# Altium integrated library ISSI SRAM Asynchronous SRAM High Speed Low Power.IntLib: 413 symbols (part 20 of 21)
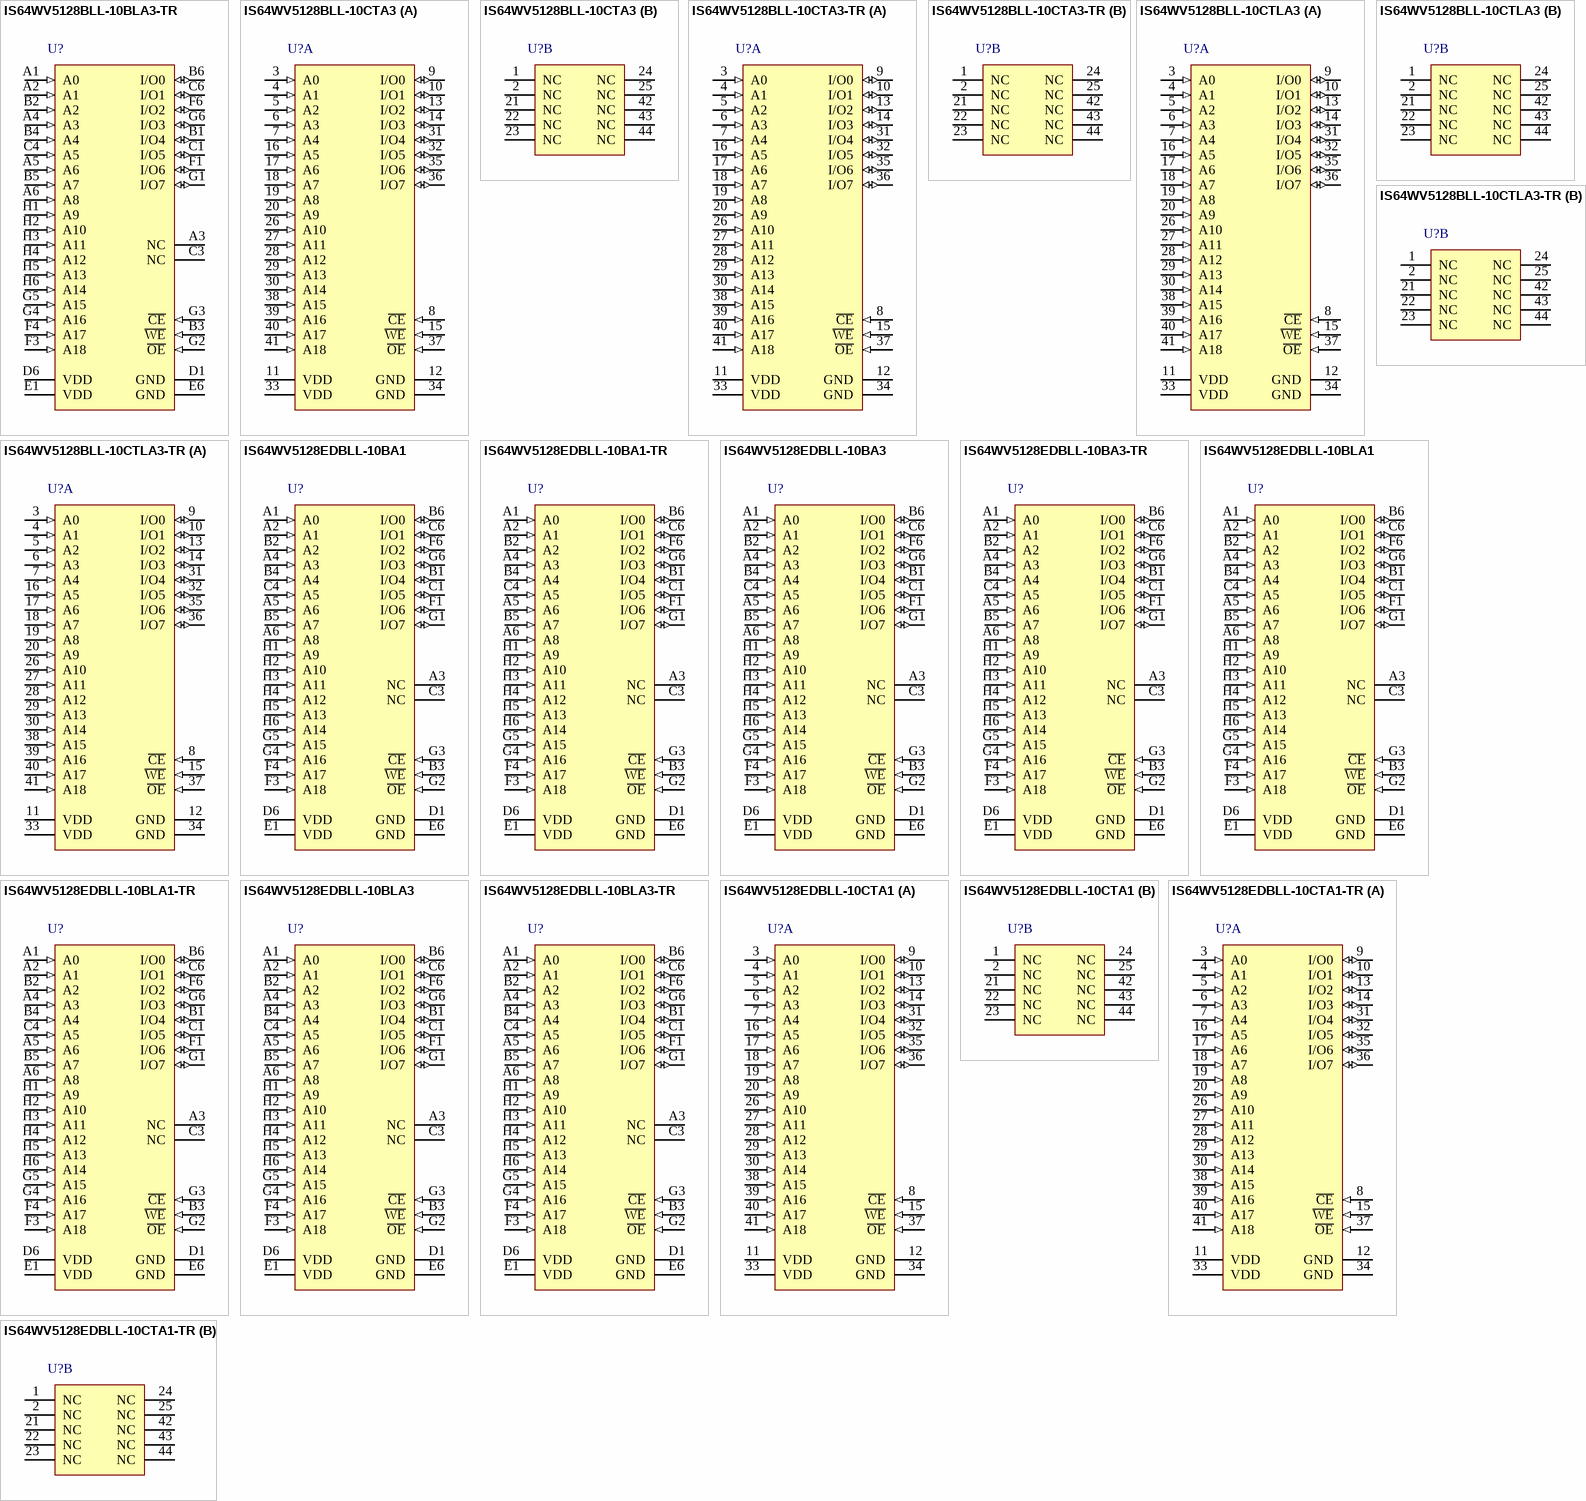
[diagram p47: symbols IS64WV5128BLL-10BLA3-TR to IS64WV5128EDBLL-10CTA1-TR]

## IS64WV5128EDBLL-10CTA1
designator U?
4 M High Speed Asynchronous CMOS SRAM with ECC, 512 K x 8, -40 to 85 degC, 44-Pin SOP (TSOP-2-44); Manufacturer: Integrated Silicon Solution Inc (ISSI); PartNumber: IS64WV5128EDBLL-10CTA1; Density: 4M; Organization: 512K x 8; Packing: Tray / Tube; Speed (ns): 10; DatasheetVersion: Rev. F; PackageVersion: Rev. F, 06/2008; PackageReference: TSOP-2-44; PackageDescription: 44-Pin 400 mil TSOP-2, Body 18.41 x 10.16 mm, Pitch 0.8 mm; Mounting Technology: Surface Mount; ComponentLink1Description: Manufacturer URL; ComponentLink1URL: http://www.issi.com/US/index.shtml; ComponentLink2Description: Datasheet; ComponentLink2URL: http://www.issi.com/WW/pdf/61-64WV5128EDBLL.pdf; ComponentLink3Description: Package Specification; ComponentLink3URL: http://www.issi.com/WW/pdf/61-64WV6416EEBLL.pdf
footprint ISSI-TSOP-2-44_N (SOP, 44-Leads, Body 18.5x10.3mm, Pitch 0.8mm, IPC Medium Density)
part A pins: 3 A0 (in) "Address Input", 4 A1 (in) "Address Input", 5 A2 (in) "Address Input", 6 A3 (in) "Address Input", 7 A4 (in) "Address Input", 8 ~{CE} (in) "Chip Enable Input", 9 I/O0 (io) "Bidirectional Port", 10 I/O1 (io) "Bidirectional Port", 11 VDD (power) "Power", 12 GND (power) "Ground", 13 I/O2 (io) "Bidirectional Port", 14 I/O3 (io) "Bidirectional Port", 15 ~{WE} (in) "Write Enable Input", 16 A5 (in) "Address Input", 17 A6 (in) "Address Input", 18 A7 (in) "Address Input", 19 A8 (in) "Address Input", 20 A9 (in) "Address Input", 26 A10 (in) "Address Input", 27 A11 (in) "Address Input", 28 A12 (in) "Address Input", 29 A13 (in) "Address Input", 30 A14 (in) "Address Input", 31 I/O4 (io) "Bidirectional Port", 32 I/O5 (io) "Bidirectional Port", 33 VDD (power) "Power", 34 GND (power) "Ground", 35 I/O6 (io) "Bidirectional Port", 36 I/O7 (io) "Bidirectional Port", 37 ~{OE} (in) "Output Enable Input", 38 A15 (in) "Address Input", 39 A16 (in) "Address Input", 40 A17 (in) "Address Input", 41 A18 (in) "Address Input"
part B pins: 1 NC "No Connection", 2 NC "No Connection", 21 NC "No Connection", 22 NC "No Connection", 23 NC "No Connection", 24 NC "No Connection", 25 NC "No Connection", 42 NC "No Connection", 43 NC "No Connection", 44 NC "No Connection"

## IS64WV5128EDBLL-10CTA1-TR
designator U?
4 M High Speed Asynchronous CMOS SRAM with ECC, 512 K x 8, -40 to 85 degC, 44-Pin SOP (TSOP-2-44); Manufacturer: Integrated Silicon Solution Inc (ISSI); PartNumber: IS64WV5128EDBLL-10CTA1-TR; Density: 4M; Organization: 512K x 8; Packing: Tape & Reel; Speed (ns): 10; DatasheetVersion: Rev. F; PackageVersion: Rev. F, 06/2008; PackageReference: TSOP-2-44; PackageDescription: 44-Pin 400 mil TSOP-2, Body 18.41 x 10.16 mm, Pitch 0.8 mm; Mounting Technology: Surface Mount; ComponentLink1Description: Manufacturer URL; ComponentLink1URL: http://www.issi.com/US/index.shtml; ComponentLink2Description: Datasheet; ComponentLink2URL: http://www.issi.com/WW/pdf/61-64WV5128EDBLL.pdf; ComponentLink3Description: Package Specification; ComponentLink3URL: http://www.issi.com/WW/pdf/61-64WV6416EEBLL.pdf
footprint ISSI-TSOP-2-44_N (SOP, 44-Leads, Body 18.5x10.3mm, Pitch 0.8mm, IPC Medium Density)
part A pins: 3 A0 (in) "Address Input", 4 A1 (in) "Address Input", 5 A2 (in) "Address Input", 6 A3 (in) "Address Input", 7 A4 (in) "Address Input", 8 ~{CE} (in) "Chip Enable Input", 9 I/O0 (io) "Bidirectional Port", 10 I/O1 (io) "Bidirectional Port", 11 VDD (power) "Power", 12 GND (power) "Ground", 13 I/O2 (io) "Bidirectional Port", 14 I/O3 (io) "Bidirectional Port", 15 ~{WE} (in) "Write Enable Input", 16 A5 (in) "Address Input", 17 A6 (in) "Address Input", 18 A7 (in) "Address Input", 19 A8 (in) "Address Input", 20 A9 (in) "Address Input", 26 A10 (in) "Address Input", 27 A11 (in) "Address Input", 28 A12 (in) "Address Input", 29 A13 (in) "Address Input", 30 A14 (in) "Address Input", 31 I/O4 (io) "Bidirectional Port", 32 I/O5 (io) "Bidirectional Port", 33 VDD (power) "Power", 34 GND (power) "Ground", 35 I/O6 (io) "Bidirectional Port", 36 I/O7 (io) "Bidirectional Port", 37 ~{OE} (in) "Output Enable Input", 38 A15 (in) "Address Input", 39 A16 (in) "Address Input", 40 A17 (in) "Address Input", 41 A18 (in) "Address Input"
part B pins: 1 NC "No Connection", 2 NC "No Connection", 21 NC "No Connection", 22 NC "No Connection", 23 NC "No Connection", 24 NC "No Connection", 25 NC "No Connection", 42 NC "No Connection", 43 NC "No Connection", 44 NC "No Connection"

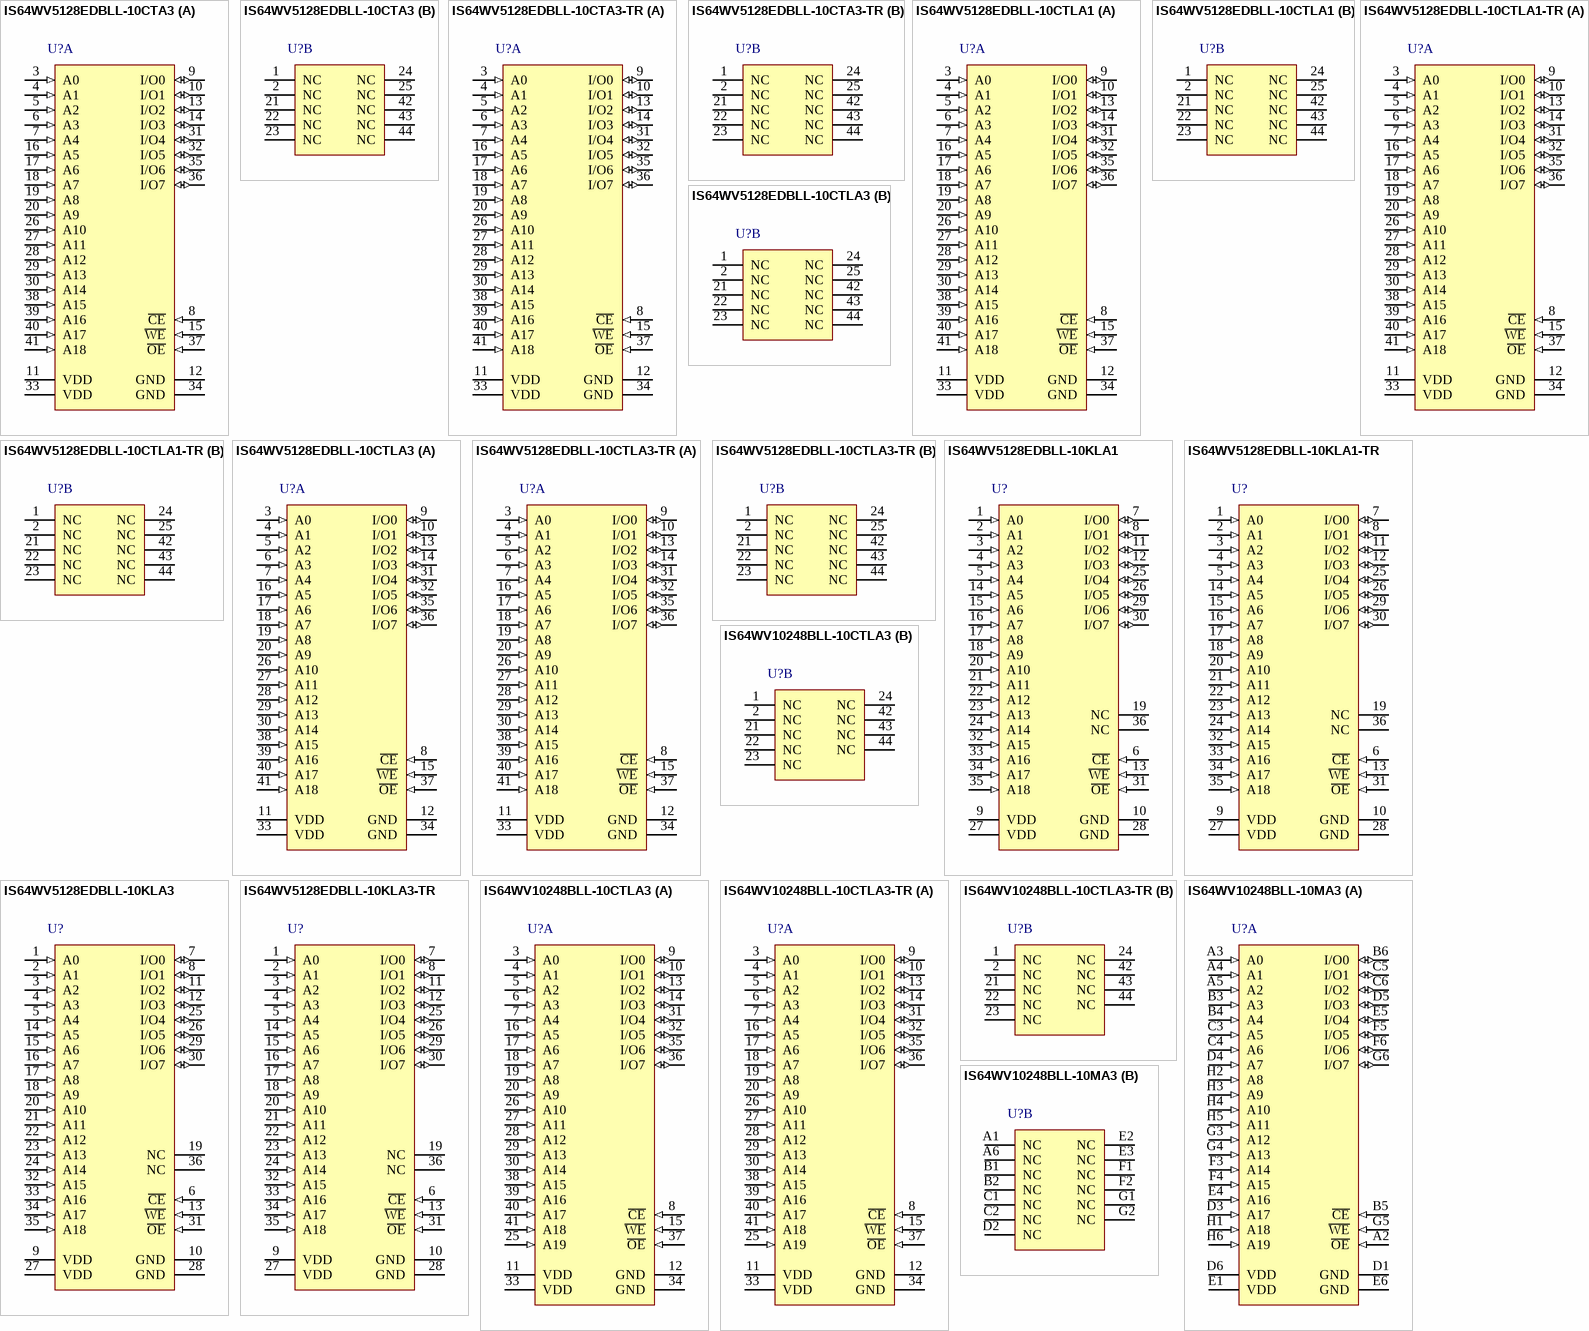
[diagram p27: symbols IS64WV5128EDBLL-10CTA3 to IS64WV10248BLL-10MA3]

## IS64WV5128EDBLL-10CTA3
designator U?
4 M High Speed Asynchronous CMOS SRAM with ECC, 512 K x 8, -40 to 125 degC, 44-Pin SOP (TSOP-2-44); Manufacturer: Integrated Silicon Solution Inc (ISSI); PartNumber: IS64WV5128EDBLL-10CTA3; Density: 4M; Organization: 512K x 8; Packing: Tray / Tube; Speed (ns): 10; DatasheetVersion: Rev. F; PackageVersion: Rev. F, 06/2008; PackageReference: TSOP-2-44; PackageDescription: 44-Pin 400 mil TSOP-2, Body 18.41 x 10.16 mm, Pitch 0.8 mm; Mounting Technology: Surface Mount; ComponentLink1Description: Manufacturer URL; ComponentLink1URL: http://www.issi.com/US/index.shtml; ComponentLink2Description: Datasheet; ComponentLink2URL: http://www.issi.com/WW/pdf/61-64WV5128EDBLL.pdf; ComponentLink3Description: Package Specification; ComponentLink3URL: http://www.issi.com/WW/pdf/61-64WV6416EEBLL.pdf
footprint ISSI-TSOP-2-44_N (SOP, 44-Leads, Body 18.5x10.3mm, Pitch 0.8mm, IPC Medium Density)
part A pins: 3 A0 (in) "Address Input", 4 A1 (in) "Address Input", 5 A2 (in) "Address Input", 6 A3 (in) "Address Input", 7 A4 (in) "Address Input", 8 ~{CE} (in) "Chip Enable Input", 9 I/O0 (io) "Bidirectional Port", 10 I/O1 (io) "Bidirectional Port", 11 VDD (power) "Power", 12 GND (power) "Ground", 13 I/O2 (io) "Bidirectional Port", 14 I/O3 (io) "Bidirectional Port", 15 ~{WE} (in) "Write Enable Input", 16 A5 (in) "Address Input", 17 A6 (in) "Address Input", 18 A7 (in) "Address Input", 19 A8 (in) "Address Input", 20 A9 (in) "Address Input", 26 A10 (in) "Address Input", 27 A11 (in) "Address Input", 28 A12 (in) "Address Input", 29 A13 (in) "Address Input", 30 A14 (in) "Address Input", 31 I/O4 (io) "Bidirectional Port", 32 I/O5 (io) "Bidirectional Port", 33 VDD (power) "Power", 34 GND (power) "Ground", 35 I/O6 (io) "Bidirectional Port", 36 I/O7 (io) "Bidirectional Port", 37 ~{OE} (in) "Output Enable Input", 38 A15 (in) "Address Input", 39 A16 (in) "Address Input", 40 A17 (in) "Address Input", 41 A18 (in) "Address Input"
part B pins: 1 NC "No Connection", 2 NC "No Connection", 21 NC "No Connection", 22 NC "No Connection", 23 NC "No Connection", 24 NC "No Connection", 25 NC "No Connection", 42 NC "No Connection", 43 NC "No Connection", 44 NC "No Connection"

## IS64WV5128EDBLL-10CTA3-TR
designator U?
4 M High Speed Asynchronous CMOS SRAM with ECC, 512 K x 8, -40 to 125 degC, 44-Pin SOP (TSOP-2-44); Manufacturer: Integrated Silicon Solution Inc (ISSI); PartNumber: IS64WV5128EDBLL-10CTA3-TR; Density: 4M; Organization: 512K x 8; Packing: Tape & Reel; Speed (ns): 10; DatasheetVersion: Rev. F; PackageVersion: Rev. F, 06/2008; PackageReference: TSOP-2-44; PackageDescription: 44-Pin 400 mil TSOP-2, Body 18.41 x 10.16 mm, Pitch 0.8 mm; Mounting Technology: Surface Mount; ComponentLink1Description: Manufacturer URL; ComponentLink1URL: http://www.issi.com/US/index.shtml; ComponentLink2Description: Datasheet; ComponentLink2URL: http://www.issi.com/WW/pdf/61-64WV5128EDBLL.pdf; ComponentLink3Description: Package Specification; ComponentLink3URL: http://www.issi.com/WW/pdf/61-64WV6416EEBLL.pdf
footprint ISSI-TSOP-2-44_N (SOP, 44-Leads, Body 18.5x10.3mm, Pitch 0.8mm, IPC Medium Density)
part A pins: 3 A0 (in) "Address Input", 4 A1 (in) "Address Input", 5 A2 (in) "Address Input", 6 A3 (in) "Address Input", 7 A4 (in) "Address Input", 8 ~{CE} (in) "Chip Enable Input", 9 I/O0 (io) "Bidirectional Port", 10 I/O1 (io) "Bidirectional Port", 11 VDD (power) "Power", 12 GND (power) "Ground", 13 I/O2 (io) "Bidirectional Port", 14 I/O3 (io) "Bidirectional Port", 15 ~{WE} (in) "Write Enable Input", 16 A5 (in) "Address Input", 17 A6 (in) "Address Input", 18 A7 (in) "Address Input", 19 A8 (in) "Address Input", 20 A9 (in) "Address Input", 26 A10 (in) "Address Input", 27 A11 (in) "Address Input", 28 A12 (in) "Address Input", 29 A13 (in) "Address Input", 30 A14 (in) "Address Input", 31 I/O4 (io) "Bidirectional Port", 32 I/O5 (io) "Bidirectional Port", 33 VDD (power) "Power", 34 GND (power) "Ground", 35 I/O6 (io) "Bidirectional Port", 36 I/O7 (io) "Bidirectional Port", 37 ~{OE} (in) "Output Enable Input", 38 A15 (in) "Address Input", 39 A16 (in) "Address Input", 40 A17 (in) "Address Input", 41 A18 (in) "Address Input"
part B pins: 1 NC "No Connection", 2 NC "No Connection", 21 NC "No Connection", 22 NC "No Connection", 23 NC "No Connection", 24 NC "No Connection", 25 NC "No Connection", 42 NC "No Connection", 43 NC "No Connection", 44 NC "No Connection"

## IS64WV5128EDBLL-10CTLA1
designator U?
4 M High Speed Asynchronous CMOS SRAM with ECC, 512 K x 8, -40 to 85 degC, 44-Pin SOP (TSOP-2-44), Pb-Free; Manufacturer: Integrated Silicon Solution Inc (ISSI); PartNumber: IS64WV5128EDBLL-10CTLA1; Density: 4M; Organization: 512K x 8; Packing: Tray / Tube; Speed (ns): 10; DatasheetVersion: Rev. F; PackageVersion: Rev. F, 06/2008; PackageReference: TSOP-2-44; PackageDescription: 44-Pin 400 mil TSOP-2, Body 18.41 x 10.16 mm, Pitch 0.8 mm; RoHS: Pb-Free; Mounting Technology: Surface Mount; ComponentLink1Description: Manufacturer URL; ComponentLink1URL: http://www.issi.com/US/index.shtml; ComponentLink2Description: Datasheet; ComponentLink2URL: http://www.issi.com/WW/pdf/61-64WV5128EDBLL.pdf; ComponentLink3Description: Package Specification; ComponentLink3URL: http://www.issi.com/WW/pdf/61-64WV6416EEBLL.pdf
footprint ISSI-TSOP-2-44_N (SOP, 44-Leads, Body 18.5x10.3mm, Pitch 0.8mm, IPC Medium Density)
part A pins: 3 A0 (in) "Address Input", 4 A1 (in) "Address Input", 5 A2 (in) "Address Input", 6 A3 (in) "Address Input", 7 A4 (in) "Address Input", 8 ~{CE} (in) "Chip Enable Input", 9 I/O0 (io) "Bidirectional Port", 10 I/O1 (io) "Bidirectional Port", 11 VDD (power) "Power", 12 GND (power) "Ground", 13 I/O2 (io) "Bidirectional Port", 14 I/O3 (io) "Bidirectional Port", 15 ~{WE} (in) "Write Enable Input", 16 A5 (in) "Address Input", 17 A6 (in) "Address Input", 18 A7 (in) "Address Input", 19 A8 (in) "Address Input", 20 A9 (in) "Address Input", 26 A10 (in) "Address Input", 27 A11 (in) "Address Input", 28 A12 (in) "Address Input", 29 A13 (in) "Address Input", 30 A14 (in) "Address Input", 31 I/O4 (io) "Bidirectional Port", 32 I/O5 (io) "Bidirectional Port", 33 VDD (power) "Power", 34 GND (power) "Ground", 35 I/O6 (io) "Bidirectional Port", 36 I/O7 (io) "Bidirectional Port", 37 ~{OE} (in) "Output Enable Input", 38 A15 (in) "Address Input", 39 A16 (in) "Address Input", 40 A17 (in) "Address Input", 41 A18 (in) "Address Input"
part B pins: 1 NC "No Connection", 2 NC "No Connection", 21 NC "No Connection", 22 NC "No Connection", 23 NC "No Connection", 24 NC "No Connection", 25 NC "No Connection", 42 NC "No Connection", 43 NC "No Connection", 44 NC "No Connection"

## IS64WV5128EDBLL-10CTLA1-TR
designator U?
4 M High Speed Asynchronous CMOS SRAM with ECC, 512 K x 8, -40 to 85 degC, 44-Pin SOP (TSOP-2-44), Pb-Free; Manufacturer: Integrated Silicon Solution Inc (ISSI); PartNumber: IS64WV5128EDBLL-10CTLA1-TR; Density: 4M; Organization: 512K x 8; Packing: Tape & Reel; Speed (ns): 10; DatasheetVersion: Rev. F; PackageVersion: Rev. F, 06/2008; PackageReference: TSOP-2-44; PackageDescription: 44-Pin 400 mil TSOP-2, Body 18.41 x 10.16 mm, Pitch 0.8 mm; RoHS: Pb-Free; Mounting Technology: Surface Mount; ComponentLink1Description: Manufacturer URL; ComponentLink1URL: http://www.issi.com/US/index.shtml; ComponentLink2Description: Datasheet; ComponentLink2URL: http://www.issi.com/WW/pdf/61-64WV5128EDBLL.pdf; ComponentLink3Description: Package Specification; ComponentLink3URL: http://www.issi.com/WW/pdf/61-64WV6416EEBLL.pdf
footprint ISSI-TSOP-2-44_N (SOP, 44-Leads, Body 18.5x10.3mm, Pitch 0.8mm, IPC Medium Density)
part A pins: 3 A0 (in) "Address Input", 4 A1 (in) "Address Input", 5 A2 (in) "Address Input", 6 A3 (in) "Address Input", 7 A4 (in) "Address Input", 8 ~{CE} (in) "Chip Enable Input", 9 I/O0 (io) "Bidirectional Port", 10 I/O1 (io) "Bidirectional Port", 11 VDD (power) "Power", 12 GND (power) "Ground", 13 I/O2 (io) "Bidirectional Port", 14 I/O3 (io) "Bidirectional Port", 15 ~{WE} (in) "Write Enable Input", 16 A5 (in) "Address Input", 17 A6 (in) "Address Input", 18 A7 (in) "Address Input", 19 A8 (in) "Address Input", 20 A9 (in) "Address Input", 26 A10 (in) "Address Input", 27 A11 (in) "Address Input", 28 A12 (in) "Address Input", 29 A13 (in) "Address Input", 30 A14 (in) "Address Input", 31 I/O4 (io) "Bidirectional Port", 32 I/O5 (io) "Bidirectional Port", 33 VDD (power) "Power", 34 GND (power) "Ground", 35 I/O6 (io) "Bidirectional Port", 36 I/O7 (io) "Bidirectional Port", 37 ~{OE} (in) "Output Enable Input", 38 A15 (in) "Address Input", 39 A16 (in) "Address Input", 40 A17 (in) "Address Input", 41 A18 (in) "Address Input"
part B pins: 1 NC "No Connection", 2 NC "No Connection", 21 NC "No Connection", 22 NC "No Connection", 23 NC "No Connection", 24 NC "No Connection", 25 NC "No Connection", 42 NC "No Connection", 43 NC "No Connection", 44 NC "No Connection"

## IS64WV5128EDBLL-10CTLA3
designator U?
4 M High Speed Asynchronous CMOS SRAM with ECC, 512 K x 8, -40 to 125 degC, 44-Pin SOP (TSOP-2-44), Pb-Free; Manufacturer: Integrated Silicon Solution Inc (ISSI); PartNumber: IS64WV5128EDBLL-10CTLA3; Density: 4M; Organization: 512K x 8; Packing: Tray / Tube; Speed (ns): 10; DatasheetVersion: Rev. F; PackageVersion: Rev. F, 06/2008; PackageReference: TSOP-2-44; PackageDescription: 44-Pin 400 mil TSOP-2, Body 18.41 x 10.16 mm, Pitch 0.8 mm; RoHS: Pb-Free; Mounting Technology: Surface Mount; ComponentLink1Description: Manufacturer URL; ComponentLink1URL: http://www.issi.com/US/index.shtml; ComponentLink2Description: Datasheet; ComponentLink2URL: http://www.issi.com/WW/pdf/61-64WV5128EDBLL.pdf; ComponentLink3Description: Package Specification; ComponentLink3URL: http://www.issi.com/WW/pdf/61-64WV6416EEBLL.pdf
footprint ISSI-TSOP-2-44_N (SOP, 44-Leads, Body 18.5x10.3mm, Pitch 0.8mm, IPC Medium Density)
part A pins: 3 A0 (in) "Address Input", 4 A1 (in) "Address Input", 5 A2 (in) "Address Input", 6 A3 (in) "Address Input", 7 A4 (in) "Address Input", 8 ~{CE} (in) "Chip Enable Input", 9 I/O0 (io) "Bidirectional Port", 10 I/O1 (io) "Bidirectional Port", 11 VDD (power) "Power", 12 GND (power) "Ground", 13 I/O2 (io) "Bidirectional Port", 14 I/O3 (io) "Bidirectional Port", 15 ~{WE} (in) "Write Enable Input", 16 A5 (in) "Address Input", 17 A6 (in) "Address Input", 18 A7 (in) "Address Input", 19 A8 (in) "Address Input", 20 A9 (in) "Address Input", 26 A10 (in) "Address Input", 27 A11 (in) "Address Input", 28 A12 (in) "Address Input", 29 A13 (in) "Address Input", 30 A14 (in) "Address Input", 31 I/O4 (io) "Bidirectional Port", 32 I/O5 (io) "Bidirectional Port", 33 VDD (power) "Power", 34 GND (power) "Ground", 35 I/O6 (io) "Bidirectional Port", 36 I/O7 (io) "Bidirectional Port", 37 ~{OE} (in) "Output Enable Input", 38 A15 (in) "Address Input", 39 A16 (in) "Address Input", 40 A17 (in) "Address Input", 41 A18 (in) "Address Input"
part B pins: 1 NC "No Connection", 2 NC "No Connection", 21 NC "No Connection", 22 NC "No Connection", 23 NC "No Connection", 24 NC "No Connection", 25 NC "No Connection", 42 NC "No Connection", 43 NC "No Connection", 44 NC "No Connection"

## IS64WV5128EDBLL-10CTLA3-TR
designator U?
4 M High Speed Asynchronous CMOS SRAM with ECC, 512 K x 8, -40 to 125 degC, 44-Pin SOP (TSOP-2-44), Pb-Free; Manufacturer: Integrated Silicon Solution Inc (ISSI); PartNumber: IS64WV5128EDBLL-10CTLA3-TR; Density: 4M; Organization: 512K x 8; Packing: Tape & Reel; Speed (ns): 10; DatasheetVersion: Rev. F; PackageVersion: Rev. F, 06/2008; PackageReference: TSOP-2-44; PackageDescription: 44-Pin 400 mil TSOP-2, Body 18.41 x 10.16 mm, Pitch 0.8 mm; RoHS: Pb-Free; Mounting Technology: Surface Mount; ComponentLink1Description: Manufacturer URL; ComponentLink1URL: http://www.issi.com/US/index.shtml; ComponentLink2Description: Datasheet; ComponentLink2URL: http://www.issi.com/WW/pdf/61-64WV5128EDBLL.pdf; ComponentLink3Description: Package Specification; ComponentLink3URL: http://www.issi.com/WW/pdf/61-64WV6416EEBLL.pdf
footprint ISSI-TSOP-2-44_N (SOP, 44-Leads, Body 18.5x10.3mm, Pitch 0.8mm, IPC Medium Density)
part A pins: 3 A0 (in) "Address Input", 4 A1 (in) "Address Input", 5 A2 (in) "Address Input", 6 A3 (in) "Address Input", 7 A4 (in) "Address Input", 8 ~{CE} (in) "Chip Enable Input", 9 I/O0 (io) "Bidirectional Port", 10 I/O1 (io) "Bidirectional Port", 11 VDD (power) "Power", 12 GND (power) "Ground", 13 I/O2 (io) "Bidirectional Port", 14 I/O3 (io) "Bidirectional Port", 15 ~{WE} (in) "Write Enable Input", 16 A5 (in) "Address Input", 17 A6 (in) "Address Input", 18 A7 (in) "Address Input", 19 A8 (in) "Address Input", 20 A9 (in) "Address Input", 26 A10 (in) "Address Input", 27 A11 (in) "Address Input", 28 A12 (in) "Address Input", 29 A13 (in) "Address Input", 30 A14 (in) "Address Input", 31 I/O4 (io) "Bidirectional Port", 32 I/O5 (io) "Bidirectional Port", 33 VDD (power) "Power", 34 GND (power) "Ground", 35 I/O6 (io) "Bidirectional Port", 36 I/O7 (io) "Bidirectional Port", 37 ~{OE} (in) "Output Enable Input", 38 A15 (in) "Address Input", 39 A16 (in) "Address Input", 40 A17 (in) "Address Input", 41 A18 (in) "Address Input"
part B pins: 1 NC "No Connection", 2 NC "No Connection", 21 NC "No Connection", 22 NC "No Connection", 23 NC "No Connection", 24 NC "No Connection", 25 NC "No Connection", 42 NC "No Connection", 43 NC "No Connection", 44 NC "No Connection"

## IS64WV5128EDBLL-10KLA1
designator U?
4 M High Speed Asynchronous CMOS SRAM with ECC, 512 K x 8, -40 to 85 degC, 36-Pin SOJ (SOJ-36), Pb-Free; Manufacturer: Integrated Silicon Solution Inc (ISSI); PartNumber: IS64WV5128EDBLL-10KLA1; Density: 4M; Organization: 512K x 8; Packing: Tray / Tube; Speed (ns): 10; DatasheetVersion: Rev. F; PackageVersion: Rev. F, 12/2007; PackageReference: SOJ-36; PackageDescription: 36-Pin 400 mil SOJ, Body 10.16 x 23.49 mm, Pitch 1.27 mm; RoHS: Pb-Free; Mounting Technology: Surface Mount; Code_JEDEC: MS-027; ComponentLink1Description: Manufacturer URL; ComponentLink1URL: http://www.issi.com/US/index.shtml; ComponentLink2Description: Datasheet; ComponentLink2URL: http://www.issi.com/WW/pdf/61-64WV5128EDBLL.pdf; ComponentLink3Description: Package Specification; ComponentLink3URL: http://www.issi.com/WW/pdf/61-64WV5128EDBLL.pdf
footprint ISSI-SOJ-36_N (SOJ, 36-Leads, Body 23.62x10.29mm, Pitch 1.27mm, IPC Medium Density)
pins: 1 A0 (in) "Address Input", 2 A1 (in) "Address Input", 3 A2 (in) "Address Input", 4 A3 (in) "Address Input", 5 A4 (in) "Address Input", 6 ~{CE} (in) "Chip Enable Input", 7 I/O0 (io) "Bidirectional Port", 8 I/O1 (io) "Bidirectional Port", 9 VDD (power) "Power", 10 GND (power) "Ground", 11 I/O2 (io) "Bidirectional Port", 12 I/O3 (io) "Bidirectional Port", 13 ~{WE} (in) "Write Enable Input", 14 A5 (in) "Address Input", 15 A6 (in) "Address Input", 16 A7 (in) "Address Input", 17 A8 (in) "Address Input", 18 A9 (in) "Address Input", 19 NC "No Connection", 20 A10 (in) "Address Input", 21 A11 (in) "Address Input", 22 A12 (in) "Address Input", 23 A13 (in) "Address Input", 24 A14 (in) "Address Input", 25 I/O4 (io) "Bidirectional Port", 26 I/O5 (io) "Bidirectional Port", 27 VDD (power) "Power", 28 GND (power) "Ground", 29 I/O6 (io) "Bidirectional Port", 30 I/O7 (io) "Bidirectional Port", 31 ~{OE} (in) "Output Enable Input", 32 A15 (in) "Address Input", 33 A16 (in) "Address Input", 34 A17 (in) "Address Input", 35 A18 (in) "Address Input", 36 NC "No Connection"

## IS64WV5128EDBLL-10KLA1-TR
designator U?
4 M High Speed Asynchronous CMOS SRAM with ECC, 512 K x 8, -40 to 85 degC, 36-Pin SOJ (SOJ-36), Pb-Free; Manufacturer: Integrated Silicon Solution Inc (ISSI); PartNumber: IS64WV5128EDBLL-10KLA1-TR; Density: 4M; Organization: 512K x 8; Packing: Tape & Reel; Speed (ns): 10; DatasheetVersion: Rev. F; PackageVersion: Rev. F, 12/2007; PackageReference: SOJ-36; PackageDescription: 36-Pin 400 mil SOJ, Body 10.16 x 23.49 mm, Pitch 1.27 mm; RoHS: Pb-Free; Mounting Technology: Surface Mount; Code_JEDEC: MS-027; ComponentLink1Description: Manufacturer URL; ComponentLink1URL: http://www.issi.com/US/index.shtml; ComponentLink2Description: Datasheet; ComponentLink2URL: http://www.issi.com/WW/pdf/61-64WV5128EDBLL.pdf; ComponentLink3Description: Package Specification; ComponentLink3URL: http://www.issi.com/WW/pdf/61-64WV5128EDBLL.pdf
footprint ISSI-SOJ-36_N (SOJ, 36-Leads, Body 23.62x10.29mm, Pitch 1.27mm, IPC Medium Density)
pins: 1 A0 (in) "Address Input", 2 A1 (in) "Address Input", 3 A2 (in) "Address Input", 4 A3 (in) "Address Input", 5 A4 (in) "Address Input", 6 ~{CE} (in) "Chip Enable Input", 7 I/O0 (io) "Bidirectional Port", 8 I/O1 (io) "Bidirectional Port", 9 VDD (power) "Power", 10 GND (power) "Ground", 11 I/O2 (io) "Bidirectional Port", 12 I/O3 (io) "Bidirectional Port", 13 ~{WE} (in) "Write Enable Input", 14 A5 (in) "Address Input", 15 A6 (in) "Address Input", 16 A7 (in) "Address Input", 17 A8 (in) "Address Input", 18 A9 (in) "Address Input", 19 NC "No Connection", 20 A10 (in) "Address Input", 21 A11 (in) "Address Input", 22 A12 (in) "Address Input", 23 A13 (in) "Address Input", 24 A14 (in) "Address Input", 25 I/O4 (io) "Bidirectional Port", 26 I/O5 (io) "Bidirectional Port", 27 VDD (power) "Power", 28 GND (power) "Ground", 29 I/O6 (io) "Bidirectional Port", 30 I/O7 (io) "Bidirectional Port", 31 ~{OE} (in) "Output Enable Input", 32 A15 (in) "Address Input", 33 A16 (in) "Address Input", 34 A17 (in) "Address Input", 35 A18 (in) "Address Input", 36 NC "No Connection"

## IS64WV5128EDBLL-10KLA3
designator U?
4 M High Speed Asynchronous CMOS SRAM with ECC, 512 K x 8, -40 to 125 degC, 36-Pin SOJ (SOJ-36), Pb-Free; Manufacturer: Integrated Silicon Solution Inc (ISSI); PartNumber: IS64WV5128EDBLL-10KLA3; Density: 4M; Organization: 512K x 8; Packing: Tray / Tube; Speed (ns): 10; DatasheetVersion: Rev. F; PackageVersion: Rev. F, 12/2007; PackageReference: SOJ-36; PackageDescription: 36-Pin 400 mil SOJ, Body 10.16 x 23.49 mm, Pitch 1.27 mm; RoHS: Pb-Free; Mounting Technology: Surface Mount; Code_JEDEC: MS-027; ComponentLink1Description: Manufacturer URL; ComponentLink1URL: http://www.issi.com/US/index.shtml; ComponentLink2Description: Datasheet; ComponentLink2URL: http://www.issi.com/WW/pdf/61-64WV5128EDBLL.pdf; ComponentLink3Description: Package Specification; ComponentLink3URL: http://www.issi.com/WW/pdf/61-64WV5128EDBLL.pdf
footprint ISSI-SOJ-36_N (SOJ, 36-Leads, Body 23.62x10.29mm, Pitch 1.27mm, IPC Medium Density)
pins: 1 A0 (in) "Address Input", 2 A1 (in) "Address Input", 3 A2 (in) "Address Input", 4 A3 (in) "Address Input", 5 A4 (in) "Address Input", 6 ~{CE} (in) "Chip Enable Input", 7 I/O0 (io) "Bidirectional Port", 8 I/O1 (io) "Bidirectional Port", 9 VDD (power) "Power", 10 GND (power) "Ground", 11 I/O2 (io) "Bidirectional Port", 12 I/O3 (io) "Bidirectional Port", 13 ~{WE} (in) "Write Enable Input", 14 A5 (in) "Address Input", 15 A6 (in) "Address Input", 16 A7 (in) "Address Input", 17 A8 (in) "Address Input", 18 A9 (in) "Address Input", 19 NC "No Connection", 20 A10 (in) "Address Input", 21 A11 (in) "Address Input", 22 A12 (in) "Address Input", 23 A13 (in) "Address Input", 24 A14 (in) "Address Input", 25 I/O4 (io) "Bidirectional Port", 26 I/O5 (io) "Bidirectional Port", 27 VDD (power) "Power", 28 GND (power) "Ground", 29 I/O6 (io) "Bidirectional Port", 30 I/O7 (io) "Bidirectional Port", 31 ~{OE} (in) "Output Enable Input", 32 A15 (in) "Address Input", 33 A16 (in) "Address Input", 34 A17 (in) "Address Input", 35 A18 (in) "Address Input", 36 NC "No Connection"

## IS64WV5128EDBLL-10KLA3-TR
designator U?
4 M High Speed Asynchronous CMOS SRAM with ECC, 512 K x 8, -40 to 125 degC, 36-Pin SOJ (SOJ-36), Pb-Free; Manufacturer: Integrated Silicon Solution Inc (ISSI); PartNumber: IS64WV5128EDBLL-10KLA3-TR; Density: 4M; Organization: 512K x 8; Packing: Tape & Reel; Speed (ns): 10; DatasheetVersion: Rev. F; PackageVersion: Rev. F, 12/2007; PackageReference: SOJ-36; PackageDescription: 36-Pin 400 mil SOJ, Body 10.16 x 23.49 mm, Pitch 1.27 mm; RoHS: Pb-Free; Mounting Technology: Surface Mount; Code_JEDEC: MS-027; ComponentLink1Description: Manufacturer URL; ComponentLink1URL: http://www.issi.com/US/index.shtml; ComponentLink2Description: Datasheet; ComponentLink2URL: http://www.issi.com/WW/pdf/61-64WV5128EDBLL.pdf; ComponentLink3Description: Package Specification; ComponentLink3URL: http://www.issi.com/WW/pdf/61-64WV5128EDBLL.pdf
footprint ISSI-SOJ-36_N (SOJ, 36-Leads, Body 23.62x10.29mm, Pitch 1.27mm, IPC Medium Density)
pins: 1 A0 (in) "Address Input", 2 A1 (in) "Address Input", 3 A2 (in) "Address Input", 4 A3 (in) "Address Input", 5 A4 (in) "Address Input", 6 ~{CE} (in) "Chip Enable Input", 7 I/O0 (io) "Bidirectional Port", 8 I/O1 (io) "Bidirectional Port", 9 VDD (power) "Power", 10 GND (power) "Ground", 11 I/O2 (io) "Bidirectional Port", 12 I/O3 (io) "Bidirectional Port", 13 ~{WE} (in) "Write Enable Input", 14 A5 (in) "Address Input", 15 A6 (in) "Address Input", 16 A7 (in) "Address Input", 17 A8 (in) "Address Input", 18 A9 (in) "Address Input", 19 NC "No Connection", 20 A10 (in) "Address Input", 21 A11 (in) "Address Input", 22 A12 (in) "Address Input", 23 A13 (in) "Address Input", 24 A14 (in) "Address Input", 25 I/O4 (io) "Bidirectional Port", 26 I/O5 (io) "Bidirectional Port", 27 VDD (power) "Power", 28 GND (power) "Ground", 29 I/O6 (io) "Bidirectional Port", 30 I/O7 (io) "Bidirectional Port", 31 ~{OE} (in) "Output Enable Input", 32 A15 (in) "Address Input", 33 A16 (in) "Address Input", 34 A17 (in) "Address Input", 35 A18 (in) "Address Input", 36 NC "No Connection"

## IS64WV10248BLL-10CTLA3
designator U?
8 M High Speed CMOS SRAM, 1 M x 8, -40 to 125 degC, 44-Pin SOP (TSOP-2-44), Pb-Free; Manufacturer: Integrated Silicon Solution Inc (ISSI); PartNumber: IS64WV10248BLL-10CTLA3; Organization: 1M x 8; Packing: Tray / Tube; Speed (ns): 10; DatasheetVersion: Rev. B; PackageVersion: Rev. F, 06/2008; PackageReference: TSOP-2-44; PackageDescription: 44-Pin 400 mil TSOP-2, Body 18.41 x 10.16 mm, Pitch 0.8 mm; Supplier 1: Mouser; Supplier Part Number 1: 87064WV10248B10CTLA3; RoHS: Pb-Free; Mounting Technology: Surface Mount; ComponentLink1Description: Manufacturer URL; ComponentLink1URL: http://www.issi.com/US/index.shtml; ComponentLink2Description: Datasheet; ComponentLink2URL: http://www.issi.com/WW/pdf/61-64WV10248.pdf; ComponentLink3Description: Package Specification; ComponentLink3URL: http://www.issi.com/WW/pdf/61-64WV6416EEBLL.pdf
footprint ISSI-TSOP-2-44_N (SOP, 44-Leads, Body 18.5x10.3mm, Pitch 0.8mm, IPC Medium Density)
part A pins: 3 A0 (in) "Address Input", 4 A1 (in) "Address Input", 5 A2 (in) "Address Input", 6 A3 (in) "Address Input", 7 A4 (in) "Address Input", 8 ~{CE} (in) "Chip Enable Input", 9 I/O0 (io) "Data Input / Output", 10 I/O1 (io) "Data Input / Output", 11 VDD (power) "Power", 12 GND (power) "Ground", 13 I/O2 (io) "Data Input / Output", 14 I/O3 (io) "Data Input / Output", 15 ~{WE} (in) "Write Enable Input", 16 A5 (in) "Address Input", 17 A6 (in) "Address Input", 18 A7 (in) "Address Input", 19 A8 (in) "Address Input", 20 A9 (in) "Address Input", 25 A19 (in) "Address Input", 26 A10 (in) "Address Input", 27 A11 (in) "Address Input", 28 A12 (in) "Address Input", 29 A13 (in) "Address Input", 30 A14 (in) "Address Input", 31 I/O4 (io) "Data Input / Output", 32 I/O5 (io) "Data Input / Output", 33 VDD (power) "Power", 34 GND (power) "Ground", 35 I/O6 (io) "Data Input / Output", 36 I/O7 (io) "Data Input / Output", 37 ~{OE} (in) "Output Enable Input", 38 A15 (in) "Address Input", 39 A16 (in) "Address Input", 40 A17 (in) "Address Input", 41 A18 (in) "Address Input"
part B pins: 1 NC "No Connection", 2 NC "No Connection", 21 NC "No Connection", 22 NC "No Connection", 23 NC "No Connection", 24 NC "No Connection", 42 NC "No Connection", 43 NC "No Connection", 44 NC "No Connection"

## IS64WV10248BLL-10CTLA3-TR
designator U?
8 M High Speed CMOS SRAM, 1 M x 8, -40 to 125 degC, 44-Pin SOP (TSOP-2-44), Pb-Free; Manufacturer: Integrated Silicon Solution Inc (ISSI); PartNumber: IS64WV10248BLL-10CTLA3-TR; Organization: 1M x 8; Packing: Tape & Reel; Speed (ns): 10; DatasheetVersion: Rev. B; PackageVersion: Rev. F, 06/2008; PackageReference: TSOP-2-44; PackageDescription: 44-Pin 400 mil TSOP-2, Body 18.41 x 10.16 mm, Pitch 0.8 mm; Supplier 1: Digi-Key; Supplier Part Number 1: IS64WV10248BLL-10CTLA3-TR-ND; Supplier 2: Mouser; Supplier Part Number 2: 87064W10248B10CTLA3T; RoHS: Pb-Free; Mounting Technology: Surface Mount; ComponentLink1Description: Manufacturer URL; ComponentLink1URL: http://www.issi.com/US/index.shtml; ComponentLink2Description: Datasheet; ComponentLink2URL: http://www.issi.com/WW/pdf/61-64WV10248.pdf; ComponentLink3Description: Package Specification; ComponentLink3URL: http://www.issi.com/WW/pdf/61-64WV6416EEBLL.pdf
footprint ISSI-TSOP-2-44_N (SOP, 44-Leads, Body 18.5x10.3mm, Pitch 0.8mm, IPC Medium Density)
part A pins: 3 A0 (in) "Address Input", 4 A1 (in) "Address Input", 5 A2 (in) "Address Input", 6 A3 (in) "Address Input", 7 A4 (in) "Address Input", 8 ~{CE} (in) "Chip Enable Input", 9 I/O0 (io) "Data Input / Output", 10 I/O1 (io) "Data Input / Output", 11 VDD (power) "Power", 12 GND (power) "Ground", 13 I/O2 (io) "Data Input / Output", 14 I/O3 (io) "Data Input / Output", 15 ~{WE} (in) "Write Enable Input", 16 A5 (in) "Address Input", 17 A6 (in) "Address Input", 18 A7 (in) "Address Input", 19 A8 (in) "Address Input", 20 A9 (in) "Address Input", 25 A19 (in) "Address Input", 26 A10 (in) "Address Input", 27 A11 (in) "Address Input", 28 A12 (in) "Address Input", 29 A13 (in) "Address Input", 30 A14 (in) "Address Input", 31 I/O4 (io) "Data Input / Output", 32 I/O5 (io) "Data Input / Output", 33 VDD (power) "Power", 34 GND (power) "Ground", 35 I/O6 (io) "Data Input / Output", 36 I/O7 (io) "Data Input / Output", 37 ~{OE} (in) "Output Enable Input", 38 A15 (in) "Address Input", 39 A16 (in) "Address Input", 40 A17 (in) "Address Input", 41 A18 (in) "Address Input"
part B pins: 1 NC "No Connection", 2 NC "No Connection", 21 NC "No Connection", 22 NC "No Connection", 23 NC "No Connection", 24 NC "No Connection", 42 NC "No Connection", 43 NC "No Connection", 44 NC "No Connection"

## IS64WV10248BLL-10MA3
designator U?
8 M High Speed CMOS SRAM, 1 M x 8, -40 to 125 degC, 48-Pin BGA (TF-BGA-48); Manufacturer: Integrated Silicon Solution Inc (ISSI); PartNumber: IS64WV10248BLL-10MA3; Organization: 1M x 8; Packing: Tray / Tube; Speed (ns): 10; DatasheetVersion: Rev. B; PackageVersion: Rev. B, 08/2008; PackageReference: TF-BGA-48; PackageDescription: 48-Pin 9 x 11 mm TF-BGA, Pitch 0.75 mm; Mounting Technology: Surface Mount; Code_JEDEC: MO-207; ComponentLink1Description: Manufacturer URL; ComponentLink1URL: http://www.issi.com/US/index.shtml; ComponentLink2Description: Datasheet; ComponentLink2URL: http://www.issi.com/WW/pdf/61-64WV10248.pdf; ComponentLink3Description: Package Specification; ComponentLink3URL: http://www.issi.com/WW/pdf/61-64WV51216.pdf
footprint ISSI-TF-BGA-48-9000x11000DE (BGA, 48-Balls, Body 11x9mm, Pitch 0.75mm)
part A pins: A2 ~{OE} (in) "Output Enable Input", A3 A0 (in) "Address Input", A4 A1 (in) "Address Input", A5 A2 (in) "Address Input", B3 A3 (in) "Address Input", B4 A4 (in) "Address Input", B5 ~{CE} (in) "Chip Enable Input", B6 I/O0 (io) "Data Input / Output", C3 A5 (in) "Address Input", C4 A6 (in) "Address Input", C5 I/O1 (io) "Data Input / Output", C6 I/O2 (io) "Data Input / Output", D1 GND (power) "Ground", D3 A17 (in) "Address Input", D4 A7 (in) "Address Input", D5 I/O3 (io) "Data Input / Output", D6 VDD (power) "Power", E1 VDD (power) "Power", E4 A16 (in) "Address Input", E5 I/O4 (io) "Data Input / Output", E6 GND (power) "Ground", F3 A14 (in) "Address Input", F4 A15 (in) "Address Input", F5 I/O5 (io) "Data Input / Output", F6 I/O6 (io) "Data Input / Output", G3 A12 (in) "Address Input", G4 A13 (in) "Address Input", G5 ~{WE} (in) "Write Enable Input", G6 I/O7 (io) "Data Input / Output", H1 A18 (in) "Address Input", H2 A8 (in) "Address Input", H3 A9 (in) "Address Input", H4 A10 (in) "Address Input", H5 A11 (in) "Address Input", H6 A19 (in) "Address Input"
part B pins: A1 NC "No Connection", A6 NC "No Connection", B1 NC "No Connection", B2 NC "No Connection", C1 NC "No Connection", C2 NC "No Connection", D2 NC "No Connection", E2 NC "No Connection", E3 NC "No Connection", F1 NC "No Connection", F2 NC "No Connection", G1 NC "No Connection", G2 NC "No Connection"

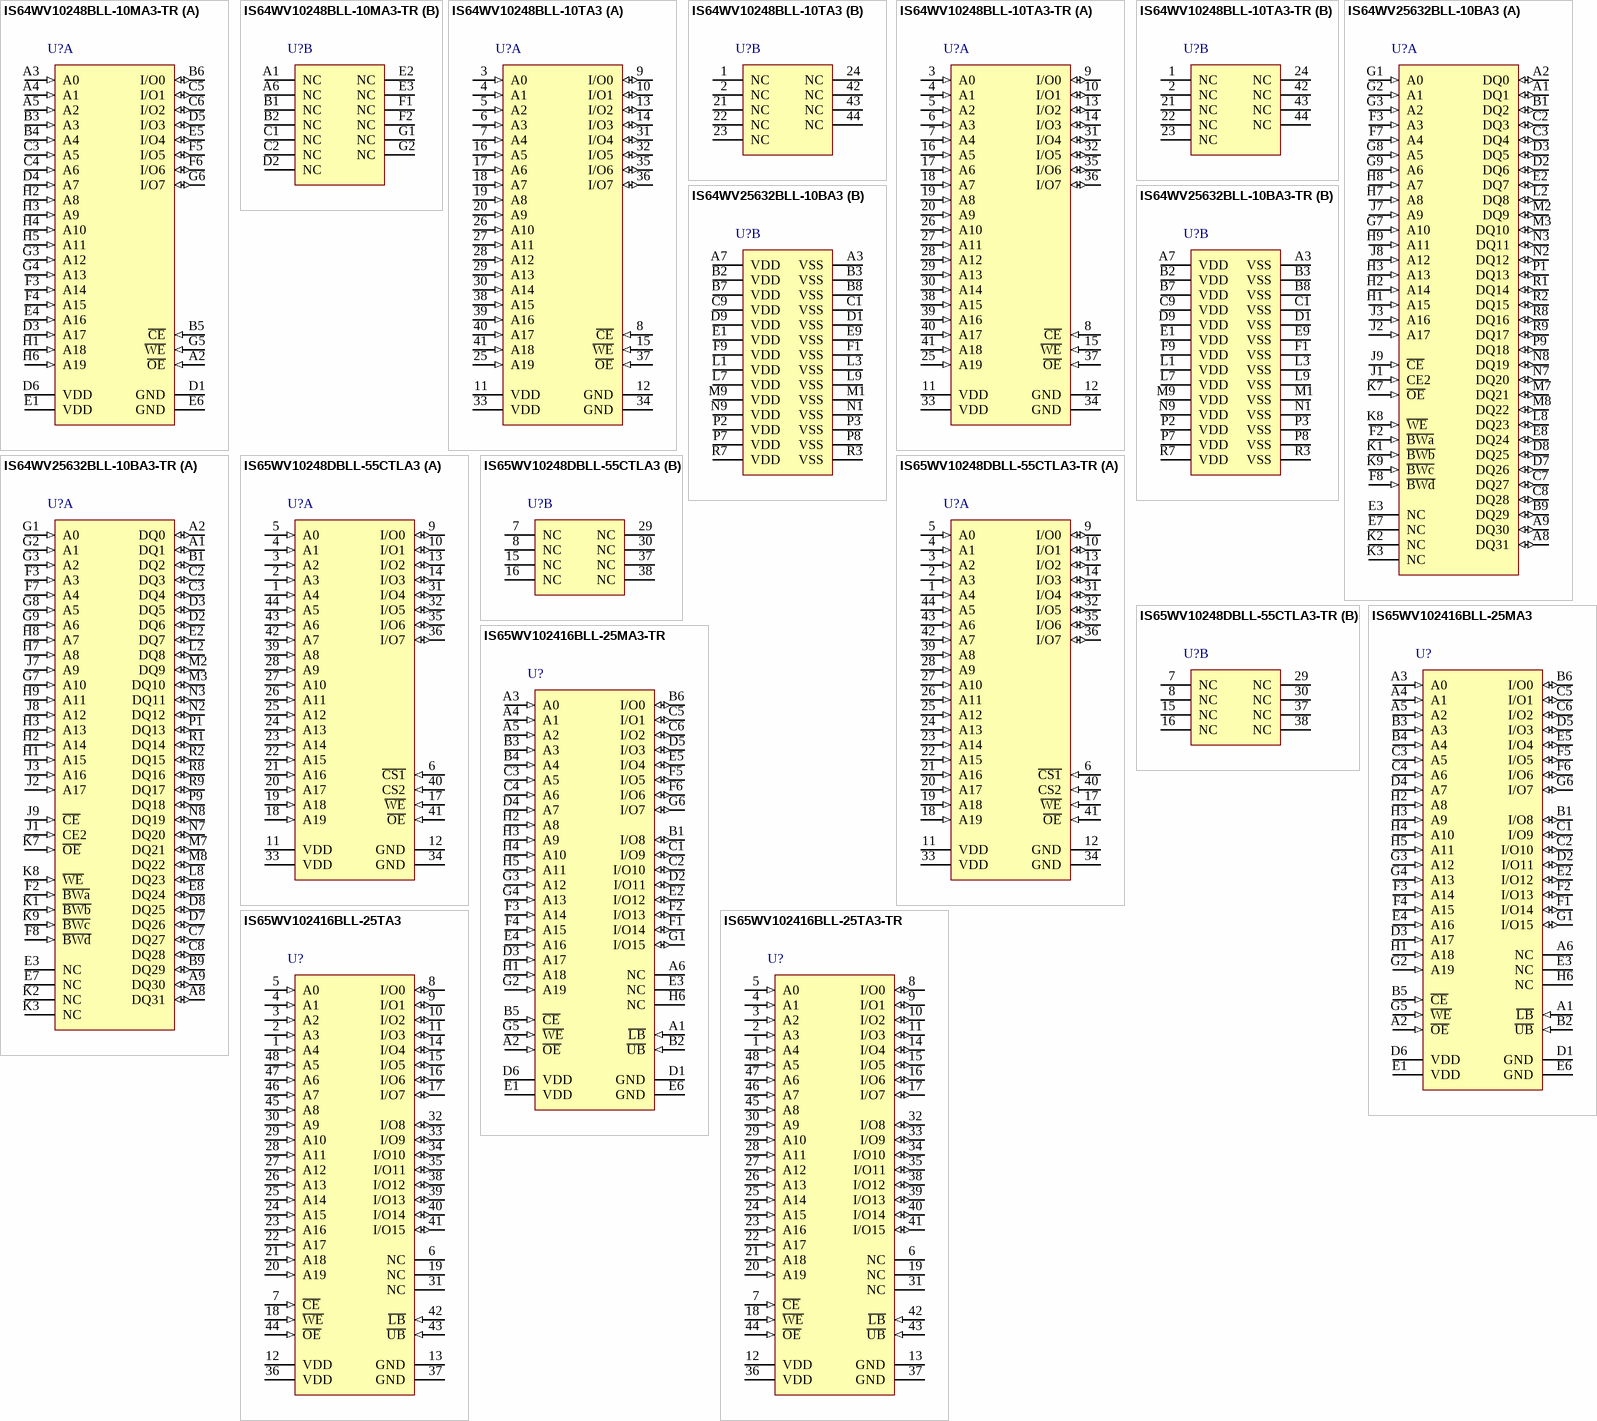
[diagram p28: symbols IS64WV10248BLL-10MA3-TR to IS65WV102416BLL-25TA3-TR]

## IS64WV10248BLL-10MA3-TR
designator U?
8 M High Speed CMOS SRAM, 1 M x 8, -40 to 125 degC, 48-Pin BGA (TF-BGA-48); Manufacturer: Integrated Silicon Solution Inc (ISSI); PartNumber: IS64WV10248BLL-10MA3-TR; Organization: 1M x 8; Packing: Tape & Reel; Speed (ns): 10; DatasheetVersion: Rev. B; PackageVersion: Rev. B, 08/2008; PackageReference: TF-BGA-48; PackageDescription: 48-Pin 9 x 11 mm TF-BGA, Pitch 0.75 mm; Mounting Technology: Surface Mount; Code_JEDEC: MO-207; ComponentLink1Description: Manufacturer URL; ComponentLink1URL: http://www.issi.com/US/index.shtml; ComponentLink2Description: Datasheet; ComponentLink2URL: http://www.issi.com/WW/pdf/61-64WV10248.pdf; ComponentLink3Description: Package Specification; ComponentLink3URL: http://www.issi.com/WW/pdf/61-64WV51216.pdf
footprint ISSI-TF-BGA-48-9000x11000DE (BGA, 48-Balls, Body 11x9mm, Pitch 0.75mm)
part A pins: A2 ~{OE} (in) "Output Enable Input", A3 A0 (in) "Address Input", A4 A1 (in) "Address Input", A5 A2 (in) "Address Input", B3 A3 (in) "Address Input", B4 A4 (in) "Address Input", B5 ~{CE} (in) "Chip Enable Input", B6 I/O0 (io) "Data Input / Output", C3 A5 (in) "Address Input", C4 A6 (in) "Address Input", C5 I/O1 (io) "Data Input / Output", C6 I/O2 (io) "Data Input / Output", D1 GND (power) "Ground", D3 A17 (in) "Address Input", D4 A7 (in) "Address Input", D5 I/O3 (io) "Data Input / Output", D6 VDD (power) "Power", E1 VDD (power) "Power", E4 A16 (in) "Address Input", E5 I/O4 (io) "Data Input / Output", E6 GND (power) "Ground", F3 A14 (in) "Address Input", F4 A15 (in) "Address Input", F5 I/O5 (io) "Data Input / Output", F6 I/O6 (io) "Data Input / Output", G3 A12 (in) "Address Input", G4 A13 (in) "Address Input", G5 ~{WE} (in) "Write Enable Input", G6 I/O7 (io) "Data Input / Output", H1 A18 (in) "Address Input", H2 A8 (in) "Address Input", H3 A9 (in) "Address Input", H4 A10 (in) "Address Input", H5 A11 (in) "Address Input", H6 A19 (in) "Address Input"
part B pins: A1 NC "No Connection", A6 NC "No Connection", B1 NC "No Connection", B2 NC "No Connection", C1 NC "No Connection", C2 NC "No Connection", D2 NC "No Connection", E2 NC "No Connection", E3 NC "No Connection", F1 NC "No Connection", F2 NC "No Connection", G1 NC "No Connection", G2 NC "No Connection"

## IS64WV10248BLL-10TA3
designator U?
8 M High Speed CMOS SRAM, 1 M x 8, -40 to 125 degC, 44-Pin SOP (TSOP-2-44); Manufacturer: Integrated Silicon Solution Inc (ISSI); PartNumber: IS64WV10248BLL-10TA3; Organization: 1M x 8; Packing: Tray / Tube; Speed (ns): 10; DatasheetVersion: Rev. B; PackageVersion: Rev. F, 06/2008; PackageReference: TSOP-2-44; PackageDescription: 44-Pin 400 mil TSOP-2, Body 18.41 x 10.16 mm, Pitch 0.8 mm; Mounting Technology: Surface Mount; ComponentLink1Description: Manufacturer URL; ComponentLink1URL: http://www.issi.com/US/index.shtml; ComponentLink2Description: Datasheet; ComponentLink2URL: http://www.issi.com/WW/pdf/61-64WV10248.pdf; ComponentLink3Description: Package Specification; ComponentLink3URL: http://www.issi.com/WW/pdf/61-64WV6416EEBLL.pdf
footprint ISSI-TSOP-2-44_N (SOP, 44-Leads, Body 18.5x10.3mm, Pitch 0.8mm, IPC Medium Density)
part A pins: 3 A0 (in) "Address Input", 4 A1 (in) "Address Input", 5 A2 (in) "Address Input", 6 A3 (in) "Address Input", 7 A4 (in) "Address Input", 8 ~{CE} (in) "Chip Enable Input", 9 I/O0 (io) "Data Input / Output", 10 I/O1 (io) "Data Input / Output", 11 VDD (power) "Power", 12 GND (power) "Ground", 13 I/O2 (io) "Data Input / Output", 14 I/O3 (io) "Data Input / Output", 15 ~{WE} (in) "Write Enable Input", 16 A5 (in) "Address Input", 17 A6 (in) "Address Input", 18 A7 (in) "Address Input", 19 A8 (in) "Address Input", 20 A9 (in) "Address Input", 25 A19 (in) "Address Input", 26 A10 (in) "Address Input", 27 A11 (in) "Address Input", 28 A12 (in) "Address Input", 29 A13 (in) "Address Input", 30 A14 (in) "Address Input", 31 I/O4 (io) "Data Input / Output", 32 I/O5 (io) "Data Input / Output", 33 VDD (power) "Power", 34 GND (power) "Ground", 35 I/O6 (io) "Data Input / Output", 36 I/O7 (io) "Data Input / Output", 37 ~{OE} (in) "Output Enable Input", 38 A15 (in) "Address Input", 39 A16 (in) "Address Input", 40 A17 (in) "Address Input", 41 A18 (in) "Address Input"
part B pins: 1 NC "No Connection", 2 NC "No Connection", 21 NC "No Connection", 22 NC "No Connection", 23 NC "No Connection", 24 NC "No Connection", 42 NC "No Connection", 43 NC "No Connection", 44 NC "No Connection"

## IS64WV10248BLL-10TA3-TR
designator U?
8 M High Speed CMOS SRAM, 1 M x 8, -40 to 125 degC, 44-Pin SOP (TSOP-2-44); Manufacturer: Integrated Silicon Solution Inc (ISSI); PartNumber: IS64WV10248BLL-10TA3-TR; Organization: 1M x 8; Packing: Tape & Reel; Speed (ns): 10; DatasheetVersion: Rev. B; PackageVersion: Rev. F, 06/2008; PackageReference: TSOP-2-44; PackageDescription: 44-Pin 400 mil TSOP-2, Body 18.41 x 10.16 mm, Pitch 0.8 mm; Mounting Technology: Surface Mount; ComponentLink1Description: Manufacturer URL; ComponentLink1URL: http://www.issi.com/US/index.shtml; ComponentLink2Description: Datasheet; ComponentLink2URL: http://www.issi.com/WW/pdf/61-64WV10248.pdf; ComponentLink3Description: Package Specification; ComponentLink3URL: http://www.issi.com/WW/pdf/61-64WV6416EEBLL.pdf
footprint ISSI-TSOP-2-44_N (SOP, 44-Leads, Body 18.5x10.3mm, Pitch 0.8mm, IPC Medium Density)
part A pins: 3 A0 (in) "Address Input", 4 A1 (in) "Address Input", 5 A2 (in) "Address Input", 6 A3 (in) "Address Input", 7 A4 (in) "Address Input", 8 ~{CE} (in) "Chip Enable Input", 9 I/O0 (io) "Data Input / Output", 10 I/O1 (io) "Data Input / Output", 11 VDD (power) "Power", 12 GND (power) "Ground", 13 I/O2 (io) "Data Input / Output", 14 I/O3 (io) "Data Input / Output", 15 ~{WE} (in) "Write Enable Input", 16 A5 (in) "Address Input", 17 A6 (in) "Address Input", 18 A7 (in) "Address Input", 19 A8 (in) "Address Input", 20 A9 (in) "Address Input", 25 A19 (in) "Address Input", 26 A10 (in) "Address Input", 27 A11 (in) "Address Input", 28 A12 (in) "Address Input", 29 A13 (in) "Address Input", 30 A14 (in) "Address Input", 31 I/O4 (io) "Data Input / Output", 32 I/O5 (io) "Data Input / Output", 33 VDD (power) "Power", 34 GND (power) "Ground", 35 I/O6 (io) "Data Input / Output", 36 I/O7 (io) "Data Input / Output", 37 ~{OE} (in) "Output Enable Input", 38 A15 (in) "Address Input", 39 A16 (in) "Address Input", 40 A17 (in) "Address Input", 41 A18 (in) "Address Input"
part B pins: 1 NC "No Connection", 2 NC "No Connection", 21 NC "No Connection", 22 NC "No Connection", 23 NC "No Connection", 24 NC "No Connection", 42 NC "No Connection", 43 NC "No Connection", 44 NC "No Connection"

## IS64WV25632BLL-10BA3
designator U?
8 M High Speed Asynchronous CMOS SRAM with 3.3 V Supply, 256 K x 32, -40 to 125 degC, 90-Pin BGA (TF-BGA-90); Manufacturer: Integrated Silicon Solution Inc (ISSI); PartNumber: IS64WV25632BLL-10BA3; Density: 8M; Packing: Tray / Tube; Speed (ns): 10; DatasheetVersion: Rev. B; PackageVersion: Rev. B, 08/2008; PackageReference: TF-BGA-90; PackageDescription: 90-Pin 8 x 13 mm TF-BGA, Pitch 0.8 mm; Organization: 256K x 32; Mounting Technology: Surface Mount; Code_JEDEC: MO-207; ComponentLink1Description: Manufacturer URL; ComponentLink1URL: http://www.issi.com/US/index.shtml; ComponentLink2Description: Datasheet; ComponentLink2URL: http://www.issi.com/WW/pdf/61-64WV25632.pdf; ComponentLink3Description: Package Specification; ComponentLink3URL: http://www.issi.com/WW/pdf/61-64WV25632.pdf
footprint ISSI-TF-BGA-90-8000X13000DE (BGA, 90-Balls, Body 13x8mm, Pitch 0.8mm)
part A pins: A1 DQ1 (io) "Data I/O", A2 DQ0 (io) "Data I/O", A8 DQ31 (io) "Data I/O", A9 DQ30 (io) "Data I/O", B1 DQ2 (io) "Data I/O", B9 DQ29 (io) "Data I/O", C2 DQ3 (io) "Data I/O", C3 DQ4 (io) "Data I/O", C7 DQ27 (io) "Data I/O", C8 DQ28 (io) "Data I/O", D2 DQ6 (io) "Data I/O", D3 DQ5 (io) "Data I/O", D7 DQ26 (io) "Data I/O", D8 DQ25 (io) "Data I/O", E2 DQ7 (io) "Data I/O", E3 NC "No Connection", E7 NC "No Connection", E8 DQ24 (io) "Data I/O", F2 ~{BWa} (in) "Byte Write Control", F3 A3 (in) "Address Inputs", F7 A4 (in) "Address Inputs", F8 ~{BWd} (in) "Byte Write Control", G1 A0 (in) "Address Inputs", G2 A1 (in) "Address Inputs", G3 A2 (in) "Address Inputs", G7 A10 (in) "Address Inputs", G8 A5 (in) "Address Inputs", G9 A6 (in) "Address Inputs", H1 A15 (in) "Address Inputs", H2 A14 (in) "Address Inputs", H3 A13 (in) "Address Inputs", H7 A8 (in) "Address Inputs", H8 A7 (in) "Address Inputs", H9 A11 (in) "Address Inputs", J1 CE2 (in) "Chip Enable Input", J2 A17 (in) "Address Inputs", J3 A16 (in) "Address Inputs", J7 A9 (in) "Address Inputs", J8 A12 (in) "Address Inputs", J9 ~{CE} (in) "Chip Enable Input", K1 ~{BWb} (in) "Byte Write Control", K2 NC "No Connection", K3 NC "No Connection", K7 ~{OE} (in) "Output Enable Input", K8 ~{WE} (in) "Write Enable Input", K9 ~{BWc} (in) "Byte Write Control", L2 DQ8 (io) "Data I/O", L8 DQ23 (io) "Data I/O", M2 DQ9 (io) "Data I/O", M3 DQ10 (io) "Data I/O", M7 DQ21 (io) "Data I/O", M8 DQ22 (io) "Data I/O", N2 DQ12 (io) "Data I/O", N3 DQ11 (io) "Data I/O", N7 DQ20 (io) "Data I/O", N8 DQ19 (io) "Data I/O", P1 DQ13 (io) "Data I/O", P9 DQ18 (io) "Data I/O", R1 DQ14 (io) "Data I/O", R2 DQ15 (io) "Data I/O", R8 DQ16 (io) "Data I/O", R9 DQ17 (io) "Data I/O"
part B pins: A3 VSS (power) "Ground", A7 VDD (power) "Power", B2 VDD (power) "Power", B3 VSS (power) "Ground", B7 VDD (power) "Power", B8 VSS (power) "Ground", C1 VSS (power) "Ground", C9 VDD (power) "Power", D1 VSS (power) "Ground", D9 VDD (power) "Power", E1 VDD (power) "Power", E9 VSS (power) "Ground", F1 VSS (power) "Ground", F9 VDD (power) "Power", L1 VDD (power) "Power", L3 VSS (power) "Ground", L7 VDD (power) "Power", L9 VSS (power) "Ground", M1 VSS (power) "Ground", M9 VDD (power) "Power", N1 VSS (power) "Ground", N9 VDD (power) "Power", P2 VDD (power) "Power", P3 VSS (power) "Ground", P7 VDD (power) "Power", P8 VSS (power) "Ground", R3 VSS (power) "Ground", R7 VDD (power) "Power"

## IS64WV25632BLL-10BA3-TR
designator U?
8 M High Speed Asynchronous CMOS SRAM with 3.3 V Supply, 256 K x 32, -40 to 125 degC, 90-Pin BGA (TF-BGA-90); Manufacturer: Integrated Silicon Solution Inc (ISSI); PartNumber: IS64WV25632BLL-10BA3-TR; Density: 8M; Packing: Tape & Reel; Speed (ns): 10; DatasheetVersion: Rev. B; PackageVersion: Rev. B, 08/2008; PackageReference: TF-BGA-90; PackageDescription: 90-Pin 8 x 13 mm TF-BGA, Pitch 0.8 mm; Organization: 256K x 32; Mounting Technology: Surface Mount; Code_JEDEC: MO-207; ComponentLink1Description: Manufacturer URL; ComponentLink1URL: http://www.issi.com/US/index.shtml; ComponentLink2Description: Datasheet; ComponentLink2URL: http://www.issi.com/WW/pdf/61-64WV25632.pdf; ComponentLink3Description: Package Specification; ComponentLink3URL: http://www.issi.com/WW/pdf/61-64WV25632.pdf
footprint ISSI-TF-BGA-90-8000X13000DE (BGA, 90-Balls, Body 13x8mm, Pitch 0.8mm)
part A pins: A1 DQ1 (io) "Data I/O", A2 DQ0 (io) "Data I/O", A8 DQ31 (io) "Data I/O", A9 DQ30 (io) "Data I/O", B1 DQ2 (io) "Data I/O", B9 DQ29 (io) "Data I/O", C2 DQ3 (io) "Data I/O", C3 DQ4 (io) "Data I/O", C7 DQ27 (io) "Data I/O", C8 DQ28 (io) "Data I/O", D2 DQ6 (io) "Data I/O", D3 DQ5 (io) "Data I/O", D7 DQ26 (io) "Data I/O", D8 DQ25 (io) "Data I/O", E2 DQ7 (io) "Data I/O", E3 NC "No Connection", E7 NC "No Connection", E8 DQ24 (io) "Data I/O", F2 ~{BWa} (in) "Byte Write Control", F3 A3 (in) "Address Inputs", F7 A4 (in) "Address Inputs", F8 ~{BWd} (in) "Byte Write Control", G1 A0 (in) "Address Inputs", G2 A1 (in) "Address Inputs", G3 A2 (in) "Address Inputs", G7 A10 (in) "Address Inputs", G8 A5 (in) "Address Inputs", G9 A6 (in) "Address Inputs", H1 A15 (in) "Address Inputs", H2 A14 (in) "Address Inputs", H3 A13 (in) "Address Inputs", H7 A8 (in) "Address Inputs", H8 A7 (in) "Address Inputs", H9 A11 (in) "Address Inputs", J1 CE2 (in) "Chip Enable Input", J2 A17 (in) "Address Inputs", J3 A16 (in) "Address Inputs", J7 A9 (in) "Address Inputs", J8 A12 (in) "Address Inputs", J9 ~{CE} (in) "Chip Enable Input", K1 ~{BWb} (in) "Byte Write Control", K2 NC "No Connection", K3 NC "No Connection", K7 ~{OE} (in) "Output Enable Input", K8 ~{WE} (in) "Write Enable Input", K9 ~{BWc} (in) "Byte Write Control", L2 DQ8 (io) "Data I/O", L8 DQ23 (io) "Data I/O", M2 DQ9 (io) "Data I/O", M3 DQ10 (io) "Data I/O", M7 DQ21 (io) "Data I/O", M8 DQ22 (io) "Data I/O", N2 DQ12 (io) "Data I/O", N3 DQ11 (io) "Data I/O", N7 DQ20 (io) "Data I/O", N8 DQ19 (io) "Data I/O", P1 DQ13 (io) "Data I/O", P9 DQ18 (io) "Data I/O", R1 DQ14 (io) "Data I/O", R2 DQ15 (io) "Data I/O", R8 DQ16 (io) "Data I/O", R9 DQ17 (io) "Data I/O"
part B pins: A3 VSS (power) "Ground", A7 VDD (power) "Power", B2 VDD (power) "Power", B3 VSS (power) "Ground", B7 VDD (power) "Power", B8 VSS (power) "Ground", C1 VSS (power) "Ground", C9 VDD (power) "Power", D1 VSS (power) "Ground", D9 VDD (power) "Power", E1 VDD (power) "Power", E9 VSS (power) "Ground", F1 VSS (power) "Ground", F9 VDD (power) "Power", L1 VDD (power) "Power", L3 VSS (power) "Ground", L7 VDD (power) "Power", L9 VSS (power) "Ground", M1 VSS (power) "Ground", M9 VDD (power) "Power", N1 VSS (power) "Ground", N9 VDD (power) "Power", P2 VDD (power) "Power", P3 VSS (power) "Ground", P7 VDD (power) "Power", P8 VSS (power) "Ground", R3 VSS (power) "Ground", R7 VDD (power) "Power"

## IS65WV10248DBLL-55CTLA3
designator U?
8 M Low Voltage, Ultra Low Power CMOS SRAM, 1 M x 8, -40 to 125 degC, 44-Pin SOP (TSOP-2-44), Pb-Free; Manufacturer: Integrated Silicon Solution Inc (ISSI); PartNumber: IS65WV10248DBLL-55CTLA3; Density: 8M; Organization: 1M x 8; Packing: Tray / Tube; Speed (ns): 55; DatasheetVersion: Rev. A; PackageVersion: Rev. F, 06/2008; PackageReference: TSOP-2-44; PackageDescription: 44-Pin 400 mil TSOP-2, Body 18.41 x 10.16 mm, Pitch 0.8 mm; RoHS: Pb-Free; Mounting Technology: Surface Mount; ComponentLink1Description: Manufacturer URL; ComponentLink1URL: http://www.issi.com/US/index.shtml; ComponentLink2Description: Datasheet; ComponentLink2URL: http://www.issi.com/WW/pdf/62-65WV10248DALL-BLL.pdf; ComponentLink3Description: Package Specification; ComponentLink3URL: http://www.issi.com/WW/pdf/61-64WV6416EEBLL.pdf
footprint ISSI-TSOP-2-44_N (SOP, 44-Leads, Body 18.5x10.3mm, Pitch 0.8mm, IPC Medium Density)
part A pins: 1 A4 (in) "Address Input", 2 A3 (in) "Address Input", 3 A2 (in) "Address Input", 4 A1 (in) "Address Input", 5 A0 (in) "Address Input", 6 ~{CS1} (in) "Chip Enable 1 Input", 9 I/O0 (io) "Input/Output", 10 I/O1 (io) "Input/Output", 11 VDD (power) "Power", 12 GND (power) "Ground", 13 I/O2 (io) "Input/Output", 14 I/O3 (io) "Input/Output", 17 ~{WE} (in) "Write Enable Input", 18 A19 (in) "Address Input", 19 A18 (in) "Address Input", 20 A17 (in) "Address Input", 21 A16 (in) "Address Input", 22 A15 (in) "Address Input", 23 A14 (in) "Address Input", 24 A13 (in) "Address Input", 25 A12 (in) "Address Input", 26 A11 (in) "Address Input", 27 A10 (in) "Address Input", 28 A9 (in) "Address Input", 31 I/O4 (io) "Input/Output", 32 I/O5 (io) "Input/Output", 33 VDD (power) "Power", 34 GND (power) "Ground", 35 I/O6 (io) "Input/Output", 36 I/O7 (io) "Input/Output", 39 A8 (in) "Address Input", 40 CS2 (in) "Chip Enable 2 Input", 41 ~{OE} (in) "Output Enable Input", 42 A7 (in) "Address Input", 43 A6 (in) "Address Input", 44 A5 (in) "Address Input"
part B pins: 7 NC "No Connection", 8 NC "No Connection", 15 NC "No Connection", 16 NC "No Connection", 29 NC "No Connection", 30 NC "No Connection", 37 NC "No Connection", 38 NC "No Connection"